# Altium schematic symbol library IND,6.8uH,3.6A,Wirewound,SMD.Schlib: 1 symbol
Pins are listed as number, name and electrical type; pins without a type are passive.

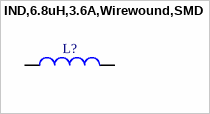
[diagram p0: symbol IND,6.8uH,3.6A,Wirewound,SMD]

## IND,6.8uH,3.6A,Wirewound,SMD
designator L?
pins: 1, 2